# Altium footprint library C0201 - MURATA.PcbLib: 1 footprints
Each footprint in its own frame and in the unit in brackets; x right, y up, seen from the top. Pads: shape width x height; smd on the part's side, far side on the other; paste and mask are expansions set on the pad; w line width, h text height; cw(c..) or ccw(c..) is an arc to the next point about the centre after c.
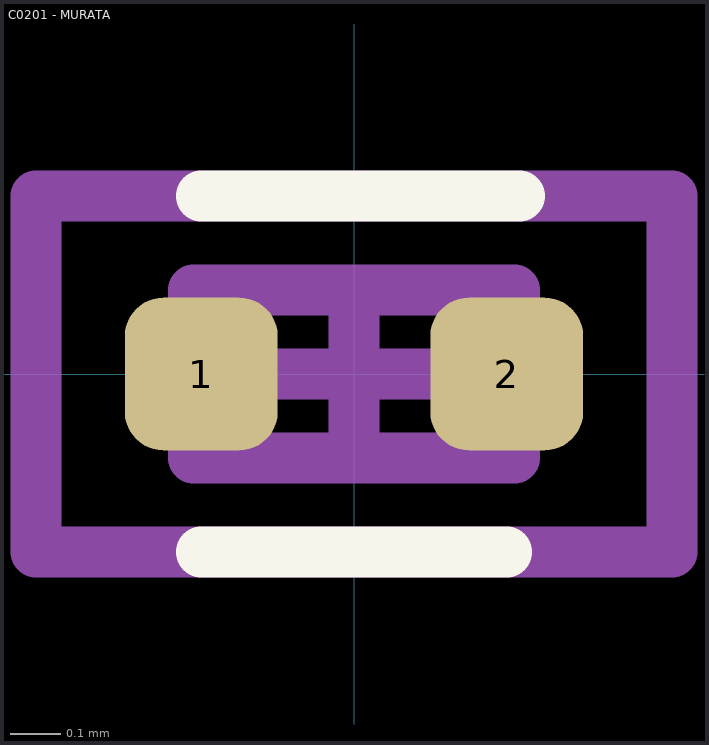
[diagram p0: the footprint, top view; thin cyan lines are the x and y axes]

## C0201 - MURATA [mm] "Chip Capacitor, 2-Leads, Body 0,60x0,30mm, IPC Medium Density"
height 0.33
pads (2):
  rrect50% 0.3x0.3 smd: 1(-0.3,0) 2(0.3,0)
Top Overlay:
  lines w0.1: -0.3,-0.35 0.3,-0.35 ; -0.3,0.35 0.325,0.35
Mechanical 13:
  lines w0.1: -0.315,-0.165 -0.315,0.165 0.315,0.165 0.315,-0.165 -0.315,-0.165
Mechanical 15:
  lines w0.1: -0.165,0 0.165,0 ; 0,-0.165 0,0.165 ; -0.625,-0.35 -0.625,0.35 0.625,0.35 0.625,-0.35 -0.625,-0.35
Top Designator:
  text ".Designator" at -1.054,-0.087 h0.25
3D body "CAPC0603X03N.step": height 0.33, standoff 0, extent -0.315,-0.165 0.315,0.165